# Altium schematic symbol library FlyBox2.SchLib: 12 symbols
Pins are listed as number, name and electrical type; pins without a type are passive.

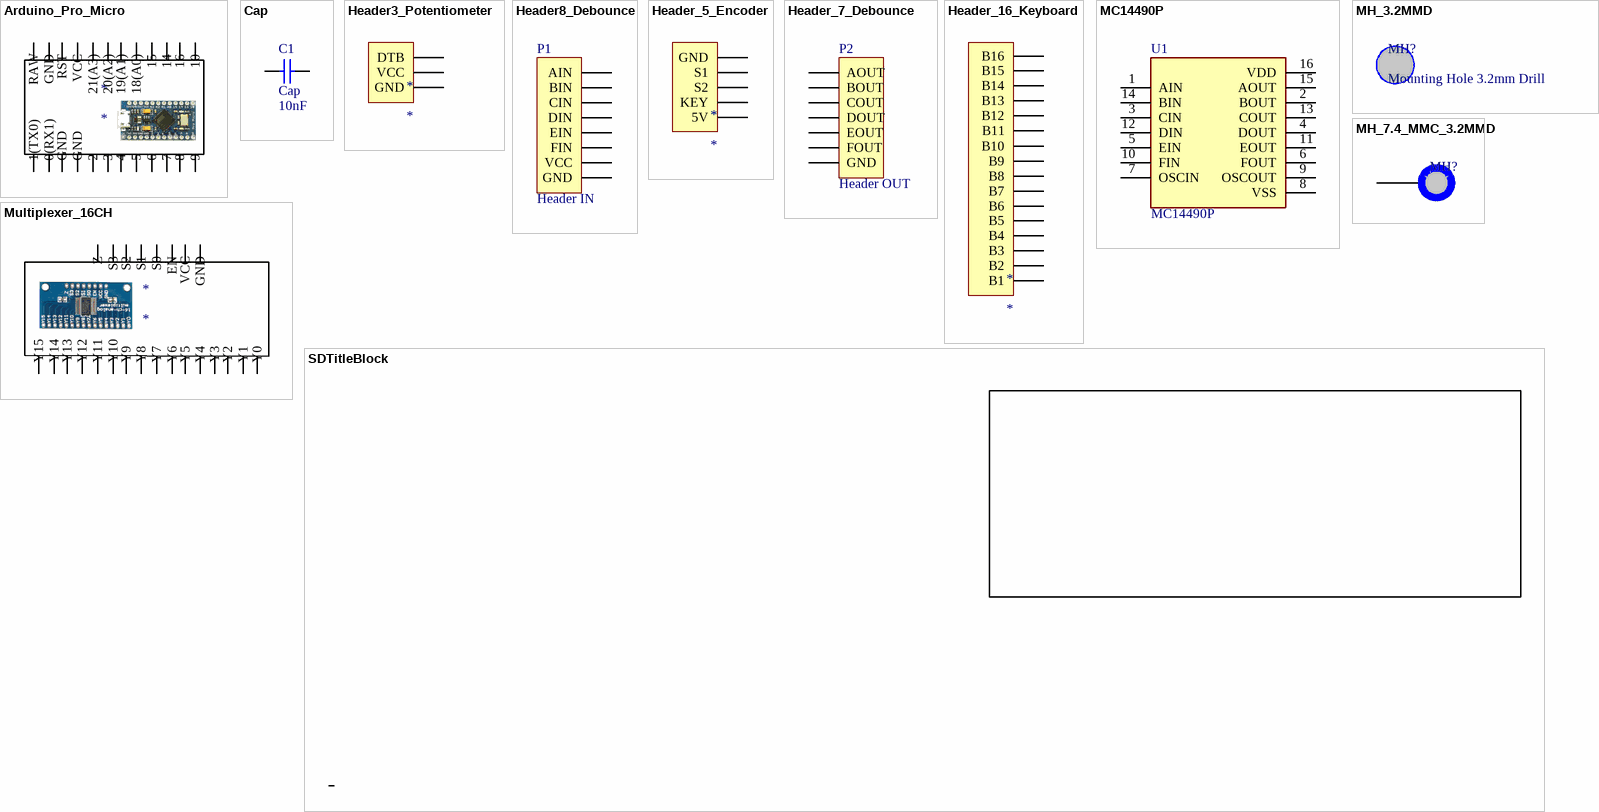
[diagram p0: symbols Arduino_Pro_Micro to SDTitleBlock]

## Arduino_Pro_Micro
designator *
Arduino pro micro board
footprint Arduino_Pro_Micro_Board
pins: 1 1(TX0), 2 0(RX1), 3 GND, 4 GND, 5 2, 6 3, 7 4, 8 5, 9 6, 10 7, 11 8, 12 9, 13 RAW, 14 GND, 15 RST, 16 VCC, 17 21(A3), 18 20(A2), 19 19(A1), 20 18(A0), 21 15, 22 14, 23 16, 24 10

## Cap
designator C1  value 10nF
Capacitor; Published: 8-Jun-2000; LatestRevisionDate: 17-Jul-2002; LatestRevisionNote: Re-released for DXP Platform.; PackageReference: RAD-0.3; Publisher: Altium Limited; PackageDescription: Radial Cap, Thru-Hole; 2 Leads; 0.3 in Pin Spacing
footprint RAD-0.3 (Radial Cap, Thru-Hole; 2 Leads; 0.3 in Pin Spacing)
simulation model CAP (Capacitor)
signal-integrity model Cap
pins: 1, 2

## Header3_Potentiometer
designator *
pins: 1 GND "DT", 2 VCC "CLK", 3 DTB

## Header8_Debounce
designator P1, comment Header IN
Header, 8-Pin debounce input; LatestRevisionDate: 17-Jul-2002; LatestRevisionNote: Re-released for DXP Platform.; Publisher: Altium Limited
footprint HDR1X8 (Connector; Header; 8 Position)
signal-integrity model Connector
pins: 1 GND, 2 VCC, 3 FIN, 4 EIN, 5 DIN, 6 CIN, 7 BIN, 8 AIN

## Header_5_Encoder
designator *
Header 5 pins to connect one encoder
footprint HDR1X5_Encoder (Header 5 pins for Encoder module)
pins: 1 GND, 2 S1 "CLK", 3 S2 "DT", 4 KEY "Press button", 5 5V

## Header_7_Debounce
designator P2, comment Header OUT
Header, 7-Pin debounce output; LatestRevisionDate: 17-Jul-2002; LatestRevisionNote: Re-released for DXP Platform.; Publisher: Altium Limited
footprint HDR1X7 (Connector; Header; 7 Position)
signal-integrity model Connector
pins: 1 GND, 2 FOUT, 3 EOUT, 4 DOUT, 5 COUT, 6 BOUT, 7 AOUT

## Header_16_Keyboard
designator *
footprint HDR1X16_Buttons
pins: 1 B1, 2 B2, 3 B3, 4 B4, 5 B5, 6 B6, 7 B7, 8 B8, 9 B9, 10 B10, 11 B11, 12 B12, 13 B13, 14 B14, 15 B15, 16 B16

## MC14490P
designator U1
Contact Bounce Eliminator IC 16-DIP; MF: ON Semiconductor; Value: *; Availability: Unavailable; Package: DIP-16 ON Semiconductor; Price: None; SnapEDA_Link: https://www.snapeda.com/parts/MC14490P/ON%20Semiconductor/view-part/4220489/?ref=snap; MP: MC14490P
footprint DIP762W46P254L1918H444Q16P
pins: 1 AIN, 2 BOUT, 3 CIN, 4 DOUT, 5 EIN, 6 FOUT, 7 OSCIN, 8 VSS (power), 9 OSCOUT, 10 FIN, 11 EOUT, 12 DIN, 13 COUT, 14 BIN, 15 AOUT, 16 VDD (power)

## MH_3.2MMD
designator MH?, comment Mounting Hole 3.2mm Drill  (no BOM)
footprint MH_3.2MMD

## MH_7.4_MMC_3.2MMD
designator MH?, comment Mounting Hole 7.4mm Diameter, 3.2mm Drill  (value not drawn)  (no BOM)
footprint MH_7.4_MMC_3.2MMD (Mounting Hole 7.4mm Diameter, 3.2mm Drill)
pins: 1

## Multiplexer_16CH
designator *
footprint Multiplexer_16CH
pins: 1 Y0, 2 Y1, 3 Y2, 4 Y3, 5 Y4, 6 Y5, 7 Y6, 8 Y7, 9 Y8, 10 Y9, 11 Y10, 12 Y11, 13 Y12, 14 Y13, 15 Y14, 16 Y15, 17 GND, 18 VCC, 19 EN, 20 S0, 21 S1, 22 S2, 23 S3, 24 Z

## SDTitleBlock
designator *  (value not drawn)  (graphical)